# Altium footprint library Connector_Card.PcbLib: 23 footprints (part 2 of 2)
Each footprint in its own frame and in the unit in brackets; x right, y up, seen from the top. Pads: shape width x height; smd on the part's side, far side on the other; paste and mask are expansions set on the pad; w line width, h text height; cw(c..) or ccw(c..) is an arc to the next point about the centre after c.
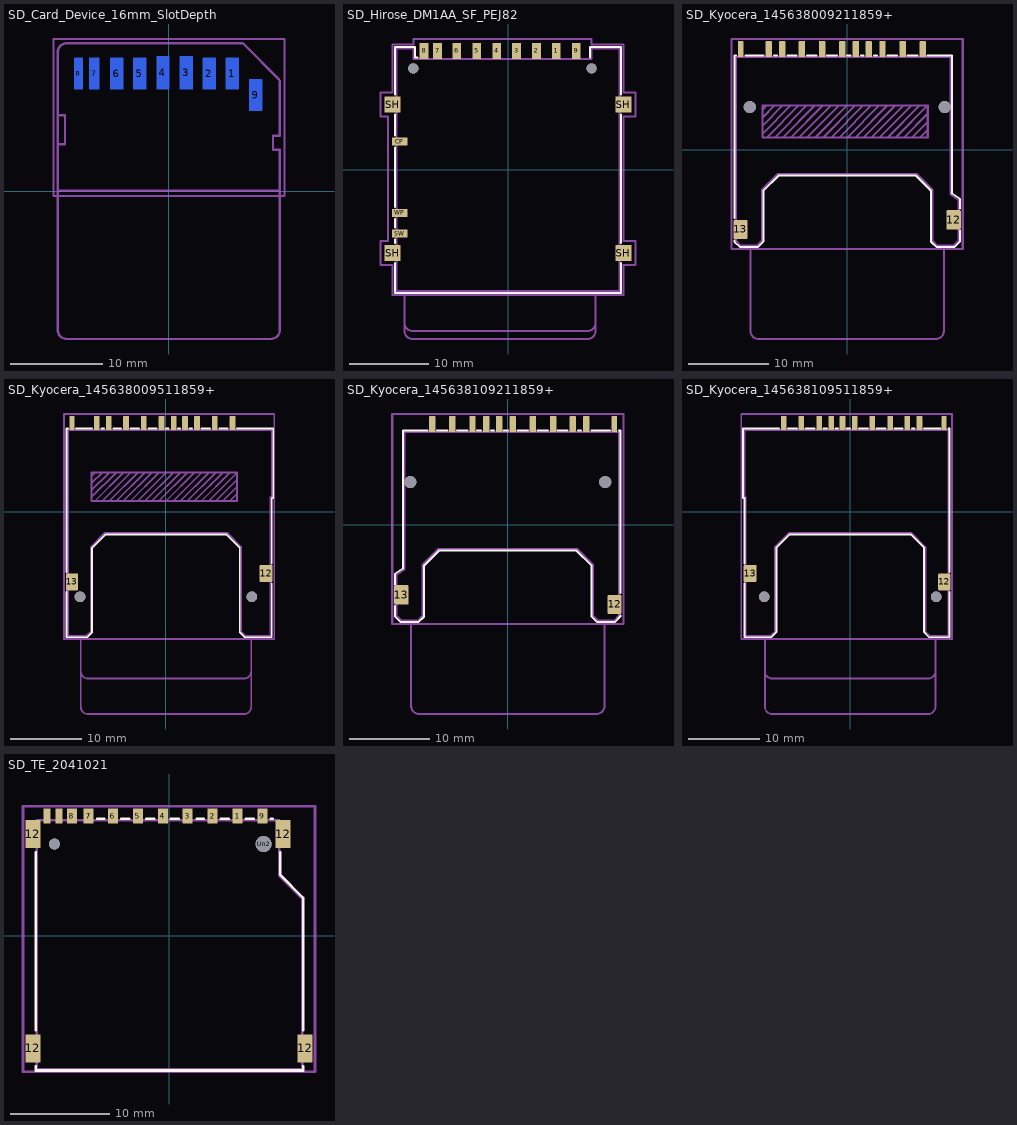
[diagram p1: the footprints below, top view; thin cyan lines are the x and y axes]

## SD_Card_Device_16mm_SlotDepth [mm]
pads (9):
  rrect7% 1.4x3.4 smd far side: 1(6.875,12.7) 2(4.375,12.7) 5(-3.125,12.7) 6(-5.625,12.7) 9(9.375,10.4)
  rrect7% 1.4x3.6 smd far side: 3(1.875,12.8) 4(-0.625,12.8)
  rrect7% 1.1x3.4 smd far side: 7(-8.05,12.7)
  rrect7% 0.9x3.4 smd far side: 8(-9.75,12.7)
B.Mask:
  region: 11.95,11.95 11.95,8.65 7.65,8.65 7.65,10.95 -11.9,10.95 -11.9,15.95 7.95,15.95
Top Assembly:
  text "'.Designator'" at -4.047,2.16 h1
Top Courtyard:
  lines w0.254: -12.45,-0.5 -12.45,16.45 12.5,16.45 12.5,-0.5 -12.45,-0.5
Top Designator:
  text ".Designator" at -7.593,-0.258 h1.52
Edge.Cuts:
  lines w0.254: -12,0.05 -12,15 cw(c-11,15) -11,16 7.793,16 cw(c7.793,15.5) 8.146,15.854 11.854,12.146 cw(c11.5,11.793) 12,11.793 12,6 11.25,6 11.25,4.5 12,4.5 12,0.05
Cmts.User:
  lines w0.254: -11.8,5.1 -11.2,5.1 -11.2,8.2 -11.8,8.2 ; -12,-14.95 ccw(c-11,-14.95) -11,-15.95 11,-15.95 ccw(c11,-14.95) 12,-14.95 12,0.05 -12,0.05 -12,-14.95
  text "PCB Thickness 1.4mm" at -11.8,0.138 h0.5
  text "Write Protect Notch" at -11.1,4.738 h0.5

## SD_Hirose_DM1AA_SF_PEJ82 [mm]
pads (18):
  rect 1.1x2 smd: 1(6.075,14.95) 2(3.575,14.95) 3(1.075,14.95) 4(-1.425,14.95) 5(-3.925,14.95) 6(-6.425,14.95) 7(-8.85,14.95) 8(-10.55,14.95) 9(8.575,14.95)
  rect 2x1 smd: CP(-13.6,3.55) SW(-13.6,-8) WP(-13.6,-5.4)
  rect 2x2 smd: SH(-14.5,-10.45) SH(-14.5,8.2) SH(14.5,-10.45) SH(14.5,8.2)
  round 1.3 hole 1.3: Un1(-11.9,12.75) Un2(10.5,12.75)
F.SilkS:
  lines w0.254: -14.2,-11.71 -14.2,-15.45 14.2,-15.45 14.2,-11.71 ; -14.2,-9.19 -14.2,-8.76 ; -14.2,-7.24 -14.2,-6.16 ; -14.2,-4.63 -14.2,2.79 ; -14.2,4.31 -14.2,6.94 ; -14.2,9.46 -14.2,15.45 -11.7,15.45 -11.7,14.15 -11.36,14.15 ; 10.3,14.15 10.3,15.45 14.2,15.45 14.2,9.46 ; 14.19,6.94 14.2,-9.19
Top Assembly:
  lines w0.254: -14,-15.25 14,-15.25 14,15.25 10.5,15.25 10.5,13.95 -11.9,13.95 -11.9,15.25 -14,15.25 -14,-15.25
  text "'.Designator'" at -4.047,-0.84 h1
Top Courtyard:
  lines w0.254: -16,-11.95 -14.5,-11.95 -14.5,-15.75 14.5,-15.75 14.5,-11.95 16,-11.95 16,-8.95 14.5,-8.95 14.5,6.7 16,6.7 16,9.7 14.5,9.7 14.5,15.75 10.5,15.75 10.5,16.45 -11.9,16.45 -11.9,15.75 -14.5,15.75 -14.5,9.7 -16,9.7 -16,6.7 -15.1,6.7 -15.1,-8.95 -16,-8.95 -16,-11.95
Top Designator:
  text ".Designator" at -7.618,-2.908 h1.52
Dwgs.User:
  lines w0.254: -13,-19.25 ccw(c-12,-19.25) -12,-20.25 10,-20.25 ccw(c10,-19.25) 11,-19.25 ; -13,-15.25 -13,-20.25 ccw(c-12,-20.25) -12,-21.25 10,-21.25 ccw(c10,-20.25) 11,-20.25 11,-15.25

## SD_Kyocera_145638009211859+ [mm]
pads (15):
  rrect31% 0.8x2 smd: 1(6.88,12.5) 2(4.38,12.5) 3(1.08,12.5) 4(-0.62,12.5) 5(-3.12,12.5) 6(-5.62,12.5) 7(-8.05,12.5) 8(-9.75,12.5) 9(9.38,12.5) 10(2.68,12.5)
  rrect36% 0.7x2 smd: 11(-13.24,12.5)
  rrect14% 1.8x2.4 smd: 12(13.2,-8.7)
  rrect15% 1.7x2.4 smd: 13(-13.25,-9.9)
  round 1.5 hole 1.5: Un1(-12.1,5.3) Un2(12.1,5.3)
F.SilkS:
  lines w0.254: -14,-11.3 -14,-11.4 -13.3,-12.1 -11.1,-12.1 -10.4,-11.4 -10.4,-5.1 -8.5,-3.2 8.5,-3.2 10.4,-5.1 10.4,-11.4 11.1,-12.1 13.3,-12.1 14,-11.4 14,-10 ; -14,-8.5 -14,11.7 -13.8,11.7 ; -12.6,11.7 -10.4,11.7 ; -9.1,11.7 -8.7,11.7 ; -7.4,11.7 -6.3,11.7 ; -5,11.7 -3.8,11.7 ; -2.5,11.7 -1.3,11.7 ; 0,11.7 0.4,11.7 ; 1.7,11.7 2,11.7 ; 3.3,11.7 3.7,11.7 ; 5,11.7 6.2,11.7 ; 7.5,11.7 8.7,11.7 ; 10,11.7 13,11.7 13,-5.4 14,-6.1 14,-7.3
Top Assembly:
  lines w0.254: -13.8,-11.3 -13.2,-11.9 -11.2,-11.9 -10.6,-11.3 -10.6,-5 -8.6,-3 8.6,-3 10.6,-5 10.6,-11.3 11.2,-11.9 13.2,-11.9 13.8,-11.3 13.8,-6.2 12.8,-5.5 12.8,11.5 -13.8,11.5 -13.8,-11.3
  text "'.Designator'" at -4.047,-2.54 h1
Top Courtyard:
  lines w0.254: -14.35,-12.35 14.35,-12.35 14.35,13.75 -14.35,13.75 -14.35,-12.35
Top Designator:
  text ".Designator" at -7.618,-5.383 h1.52
Dwgs.User:
  lines w0.254: -12,-11.9 -12,-22.5 ccw(c-11,-22.5) -11,-23.5 11,-23.5 ccw(c11,-22.5) 12,-22.5 12,-11.9 ; -10.5,2 -7,5.5 ; -10.5,3 -8,5.5 ; -10.5,4 -9,5.5 ; -10.5,5 -10,5.5 ; -10,1.5 -6,5.5 ; -9,1.5 -5,5.5 ; -8,1.5 -4,5.5 ; -7,1.5 -3,5.5 ; -6,1.5 -2,5.5 ; -5,1.5 -1,5.5 ; -4,1.5 0,5.5 ; -3,1.5 1,5.5 ; -2,1.5 2,5.5 ; -1,1.5 3,5.5 ; 0,1.5 4,5.5 ; 1,1.5 5,5.5 ; 2,1.5 6,5.5 ; 3,1.5 7,5.5 ; 4,1.5 8,5.5 ; 5,1.5 9,5.5 ; 6,1.5 10,5.5 ; 7,1.5 10,4.5 ; 8,1.5 10,3.5 ; 9,1.5 10,2.5 ; 10,5.5 10,1.5 -10.5,1.5 -10.5,5.5 10,5.5
Cmts.User:
  text "Copper Keep Out" at -5.97,2.583 h1

## SD_Kyocera_145638009511859+ [mm]
pads (15):
  rrect31% 0.8x2 smd: 1(6.88,12.5) 2(4.38,12.5) 3(1.08,12.5) 4(-0.62,12.5) 5(-3.12,12.5) 6(-5.62,12.5) 7(-8.05,12.5) 8(-9.75,12.5) 9(9.38,12.5) 10(2.68,12.5)
  rrect36% 0.7x2 smd: 11(-13.24,12.5)
  rrect14% 1.8x2.4 smd: 12(14.1,-8.7)
  rrect15% 1.7x2.4 smd: 13(-13.25,-9.9)
  round 1.5 hole 1.5: Un1(-12.1,-12) Un2(12.1,-12)
F.SilkS:
  lines w0.254: -14,-11.3 -14,-17.7 -11.1,-17.7 -10.4,-17 -10.4,-5.1 -8.5,-3.2 8.5,-3.2 10.4,-5.1 10.4,-17 11.1,-17.7 14.9,-17.7 14.9,-10.1 ; -14,-8.5 -14,11.7 -13.8,11.7 ; -12.7,11.7 -10.4,11.7 ; -9.1,11.7 -8.7,11.7 ; -7.4,11.7 -6.3,11.7 ; -5,11.7 -3.8,11.7 ; -2.5,11.7 -1.3,11.7 ; 0,11.7 0.4,11.7 ; 1.7,11.7 2,11.7 ; 3.3,11.7 3.7,11.7 ; 5,11.7 6.2,11.7 ; 7.5,11.7 8.7,11.7 ; 10,11.7 15.1,11.7 15.1,1.9 14.9,1.9 14.9,-7.3
Top Assembly:
  lines w0.254: -13.8,-17.5 -13.8,11.5 14.9,11.5 14.9,2.1 14.7,2.1 14.7,-17.5 11.2,-17.5 10.6,-16.9 10.6,-5 8.6,-3 -8.6,-3 -10.6,-5 -10.6,-16.9 -11.2,-17.5 -13.8,-17.5
  text "'.Designator'" at -4.047,-2.54 h1
Top Courtyard:
  lines w0.254: -14.35,-17.95 -14.35,13.75 15.25,13.75 15.25,-17.95 -14.35,-17.95
Top Designator:
  text ".Designator" at -7.168,-7.883 h1.52
Dwgs.User:
  lines w0.254: -12,-22.5 ccw(c-11,-22.5) -11,-23.5 11,-23.5 ccw(c11,-22.5) 12,-22.5 ; -12,-17.5 -12,-27.5 ccw(c-11,-27.5) -11,-28.5 11,-28.5 ccw(c11,-27.5) 12,-27.5 12,-17.5 ; -10.5,2 -7,5.5 ; -10.5,3 -8,5.5 ; -10.5,4 -9,5.5 ; -10.5,5 -10,5.5 ; -10,1.5 -6,5.5 ; -9,1.5 -5,5.5 ; -8,1.5 -4,5.5 ; -7,1.5 -3,5.5 ; -6,1.5 -2,5.5 ; -5,1.5 -1,5.5 ; -4,1.5 0,5.5 ; -3,1.5 1,5.5 ; -2,1.5 2,5.5 ; -1,1.5 3,5.5 ; 0,1.5 4,5.5 ; 1,1.5 5,5.5 ; 2,1.5 6,5.5 ; 3,1.5 7,5.5 ; 4,1.5 8,5.5 ; 5,1.5 9,5.5 ; 6,1.5 10,5.5 ; 7,1.5 10,4.5 ; 8,1.5 10,3.5 ; 9,1.5 10,2.5 ; 10,5.5 -10.5,5.5 -10.5,1.5 10,1.5 10,5.5
Cmts.User:
  text "Copper Keep Out" at -5.97,2.583 h1

## SD_Kyocera_145638109211859+ [mm]
pads (15):
  rrect31% 0.8x2 smd: 1(-6.88,12.5) 2(-4.38,12.5) 3(-1.08,12.5) 4(0.62,12.5) 5(3.12,12.5) 6(5.62,12.5) 7(8.05,12.5) 8(9.75,12.5) 9(-9.38,12.5) 10(-2.68,12.5)
  rrect36% 0.7x2 smd: 11(13.24,12.5)
  rrect15% 1.7x2.4 smd: 12(13.25,-9.9)
  rrect14% 1.8x2.4 smd: 13(-13.2,-8.7)
  round 1.5 hole 1.5: Un1(-12.1,5.3) Un2(12.1,5.3)
F.SilkS:
  lines w0.254: -14,-10.1 -14,-11.4 -13.3,-12.1 -11.1,-12.1 -10.4,-11.4 -10.4,-5.1 -8.5,-3.2 8.5,-3.2 10.4,-5.1 10.4,-11.4 11.1,-12.1 13.26,-12.1 ; -14,-7.4 -14,-6.1 -13,-5.4 -13,11.7 -10,11.7 ; -8.8,11.7 -7.5,11.7 ; -6.3,11.7 -5,11.7 ; -3.8,11.7 -3.3,11.7 ; -2.1,11.7 -1.7,11.7 ; -0.5,11.7 0,11.7 ; 1.2,11.7 2.5,11.7 ; 3.7,11.7 5,11.7 ; 6.2,11.7 7.4,11.7 ; 8.7,11.7 9.1,11.7 ; 10.4,11.7 12.7,11.7 ; 13.3,-12.1 14,-11.36 14,-11.28 ; 13.8,11.7 14,11.7 14,-8.5
Top Assembly:
  lines w0.254: -13.8,-11.3 -13.8,-6.2 -12.8,-5.5 -12.8,11.5 13.8,11.5 13.8,-11.3 13.2,-11.9 11.2,-11.9 10.6,-11.3 10.6,-5 8.6,-3 -8.6,-3 -10.6,-5 -10.6,-11.3 -11.2,-11.9 -13.2,-11.9 -13.8,-11.3
  text "'.Designator'" at -4.047,-0.62 h1
Top Courtyard:
  lines w0.254: -14.35,-12.35 -14.35,13.75 14.35,13.75 14.35,-12.35 -14.35,-12.35
Top Designator:
  text ".Designator" at -7.618,-5.383 h1.52
Dwgs.User:
  lines w0.254: -12,-11.9 -12,-22.5 ccw(c-11,-22.5) -11,-23.5 11,-23.5 ccw(c11,-22.5) 12,-22.5 12,-11.9

## SD_Kyocera_145638109511859+ [mm]
pads (15):
  rrect31% 0.8x2 smd: 1(-6.88,12.5) 2(-4.38,12.5) 3(-1.08,12.5) 4(0.62,12.5) 5(3.12,12.5) 6(5.62,12.5) 7(8.05,12.5) 8(9.75,12.5) 9(-9.38,12.5) 10(-2.68,12.5)
  rrect36% 0.7x2 smd: 11(13.24,12.5)
  rrect15% 1.7x2.4 smd: 12(13.25,-9.9)
  rrect14% 1.8x2.4 smd: 13(-14.1,-8.7)
  round 1.5 hole 1.5: Un1(-12.1,-12) Un2(12.1,-12)
F.SilkS:
  lines w0.254: -14.9,-10.1 -14.9,-17.7 -11.1,-17.7 -10.4,-17 -10.4,-5.1 -8.5,-3.2 8.5,-3.2 10.4,-5.1 10.4,-17 11.1,-17.7 14,-17.7 14,-11.3 ; -14.9,-7.3 -14.9,1.9 -15.1,1.9 -15.1,11.7 -10,11.7 ; -8.8,11.7 -7.5,11.7 ; -6.3,11.7 -5,11.7 ; -3.8,11.7 -3.26,11.7 ; -2.1,11.7 -1.7,11.7 ; -0.5,11.7 0,11.7 ; 1.2,11.7 2.5,11.7 ; 3.7,11.7 5,11.7 ; 6.2,11.7 7.4,11.7 ; 8.7,11.7 9.1,11.7 ; 10.4,11.7 12.7,11.7 ; 13.8,11.7 14,11.7 14,-8.5
Top Assembly:
  lines w0.254: -14.9,2.1 -14.7,2.1 -14.7,-17.5 -11.2,-17.5 -10.6,-16.9 -10.6,-5 -8.6,-3 8.6,-3 10.6,-5 10.6,-16.9 11.2,-17.5 13.8,-17.5 13.8,11.5 -14.9,11.5 -14.9,2.1
  text "'.Designator'" at -4.047,-2.54 h1
Top Courtyard:
  lines w0.254: -15.35,-17.95 14.35,-17.95 14.35,13.75 -15.35,13.75 -15.35,-17.95
Top Designator:
  text ".Designator" at -8.118,-7.883 h1.52
Dwgs.User:
  lines w0.254: -12,-22.5 ccw(c-11,-22.5) -11,-23.5 11,-23.5 ccw(c11,-22.5) 12,-22.5 ; -12,-17.5 -12,-27.5 ccw(c-11,-27.5) -11,-28.5 11,-28.5 ccw(c11,-27.5) 12,-27.5 12,-17.5

## SD_TE_2041021 [mm]
pads (17):
  rect 1x1.5 smd: 1(6.875,11.975) 2(4.375,11.975) 3(1.875,11.975) 4(-0.625,11.975) 5(-3.125,11.975) 6(-5.625,11.975) 7(-8.055,11.975) 8(-9.755,11.975) 9(9.375,11.975)
  rect 0.7x1.5 smd: 10(-11.055,11.975) 11(-12.255,11.975)
  rect 1.5x2.8 smd: 12(-13.65,-11.325) 12(-13.65,10.175) 12(11.45,10.175) 12(13.65,-11.325)
  round 1.1 hole 1.1: Un1(-11.5,9.175)
  round 1.6 hole 1.6: Un2(9.5,9.175)
F.SilkS:
  lines w0.254: -13.37,-13.125 -13.37,-13.545 13.47,-13.545 13.47,-13.125 ; -13.37,-9.525 -13.37,8.375 ; -7.2,11.695 -6.5,11.695 ; -4.8,11.695 -4,11.695 ; -2.3,11.695 -1.5,11.695 ; 0.2,11.695 1,11.695 ; 2.8,11.695 3.5,11.695 ; 5.2,11.695 6,11.695 ; 7.7,11.695 8.5,11.695 ; 10.2,11.695 10.4,11.695 ; 11.17,8.375 11.17,6.075 13.47,3.775 13.47,-9.525
Top Assembly:
  lines w0.254: -13.25,-13.425 13.35,-13.425 13.35,3.715 11.05,6.015 11.05,11.575 -13.25,11.575 -13.25,-13.425
  text "'.Designator'" at -4.047,-2.84 h1
Top Courtyard:
  lines w0.254: -14.65,-13.68 14.65,-13.68 14.65,12.98 -14.65,12.98 -14.65,-13.68
Top Designator:
  text ".Designator" at -7.618,-0.858 h1.52
Cmts.User:
  text "KEEPOUT" at -3.128,2.91 h1